# EAGLE library part FSUSB42 (library fsusb42)
Low-Power, Two-Port, High-Speed, USB2.0 (480Mbps) UART Switch The FSUSB42 is a bi-directional, low-power, two-port, high-speed, USB2.0 switch. Configured as a double- pole, double-throw switch (DPDT) switch, it is optimized for switching between any combination of high-speed (480 Mbps) or Full-Speed (12 Mbps) sources. The FSUSB42 is compatible with the requirements of USB2.0 and features an extremely low on capacitance (CON) of 3.7 pF. The wide bandwidth of this device (720 MHz) exceeds the bandwidth needed to pass the third harmonic, resulting in signals with minimum edge and phase distortion. Superior channel-to-channel crosstalk also minimizes interference. The FSUSB42 contains special circuitry on the switch I/O pins for applications where the VCC supply is powered-off (VCC=0V), which allows the device to withstand an over-voltage condition. This device is designed to minimize current consumption even when the control voltage applied to the SEL pin is lower than the supply voltage (VCC). This feature is especially valuable to ultra-portable applications, such as cell phones, allowing for direct interface with the general- purpose I/Os of the baseband processor. Other applications include switching and connector sharing in portable cell phones, PDAs, digital cameras, printers, and notebook computers.
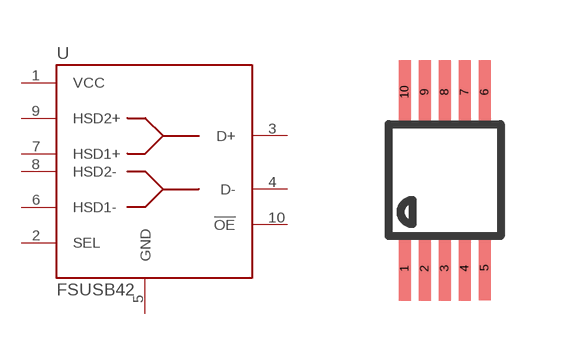
[diagram p0: symbol with the pads of MSOP10; footprint MSOP10]

Designator prefix U

## FSUSB42  [MSOP10]
1  VCC
2  SEL
3  D+
4  D-
5  GND
6  HSD1-
7  HSD1+
8  HSD2-
9  HSD2+
10  !OE

## Footprint MSOP10 (pad centres in mm)
10-Lead Mini Small Outline Package [MSOP] (RM-10) Source: http://www.analog.com/UploadedFiles/Data_Sheets/35641221898805SSM2167_b.pdf COMPLIANT TO JEDEC STANDARDS MO-187BA
smd 0.3 x 1.6: 1 -1,-2.213; 2 -0.5,-2.213; 3 0,-2.213; 4 0.5,-2.213; 5 1,-2.2; 6 1,2.2; 7 0.5,2.2; 8 0,2.2; 9 -0.5,2.2; 10 -1,2.2